# EAGLE library part CY8C42 (library we-chip)
Cypress PSoC 4200DS ARM Cortex-M0 Microcontroller CY8C4245... - 48MHz, 32KB Flash, 4KB RAM CY8C4246... - 48MHz, 64KB Flash, 8KB RAM
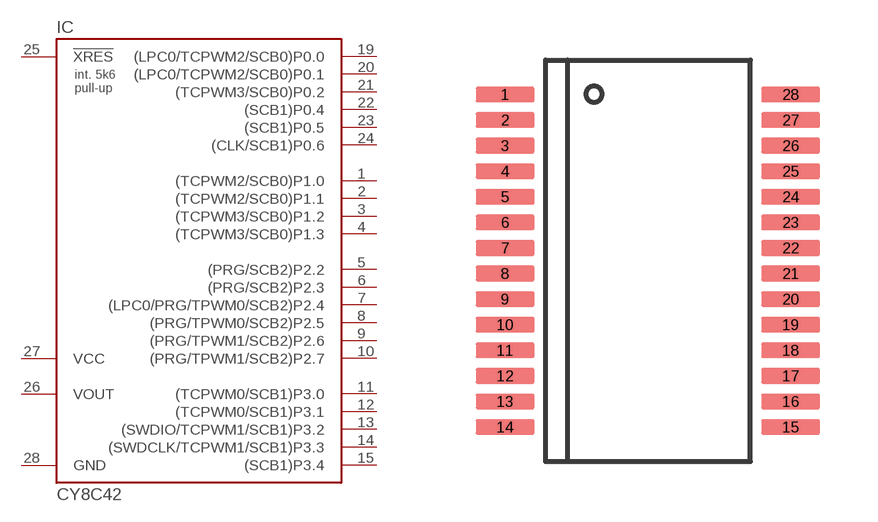
[diagram p59: symbol with the pads of SSOP28; footprint SSOP28]

Designator prefix IC

## CY8C4245PVI-DS  [SSOP28]
1  (TCPWM2/SCB0)P1.0
2  (TCPWM2/SCB0)P1.1
3  (TCPWM3/SCB0)P1.2
4  (TCPWM3/SCB0)P1.3
5  (PRG/SCB2)P2.2
6  (PRG/SCB2)P2.3
7  (LPC0/PRG/TPWM0/SCB2)P2.4
8  (PRG/TPWM0/SCB2)P2.5
9  (PRG/TPWM1/SCB2)P2.6
10  (PRG/TPWM1/SCB2)P2.7
11  (TCPWM0/SCB1)P3.0
12  (TCPWM0/SCB1)P3.1
13  (SWDIO/TCPWM1/SCB1)P3.2
14  (SWDCLK/TCPWM1/SCB1)P3.3
15  (SCB1)P3.4
19  (LPC0/TCPWM2/SCB0)P0.0
20  (LPC0/TCPWM2/SCB0)P0.1
21  (TCPWM3/SCB0)P0.2
22  (SCB1)P0.4
23  (SCB1)P0.5
24  (CLK/SCB1)P0.6
25  !XRES
26  VOUT  pwr
27  VCC  pwr
28  GND  pwr

## CY8C4246PVI-DS  [SSOP28]
Pads as for SSOP28

## Footprint SSOP28 (pad centres in mm)
smd 1.5 x 0.4: 1 -3.625,4.225; 2 -3.625,3.575; 3 -3.625,2.925; 4 -3.625,2.275; 5 -3.625,1.625; 6 -3.625,0.975; 7 -3.625,0.325; 8 -3.625,-0.325; 9 -3.625,-0.975; 10 -3.625,-1.625; 11 -3.625,-2.275; 12 -3.625,-2.925; 13 -3.625,-3.575; 14 -3.625,-4.225; 15 3.625,-4.225; 16 3.625,-3.575; 17 3.625,-2.925; 18 3.625,-2.275; 19 3.625,-1.625; 20 3.625,-0.975; 21 3.625,-0.325; 22 3.625,0.325; 23 3.625,0.975; 24 3.625,1.625; 25 3.625,2.275; 26 3.625,2.925; 27 3.625,3.575; 28 3.625,4.225